# EAGLE library part 10029449-111RLF (library distributed-vision)
HDMI HDMI 1.4 Receptacle Connector 19 Position Surface Mount, Right Angle; Through Hole
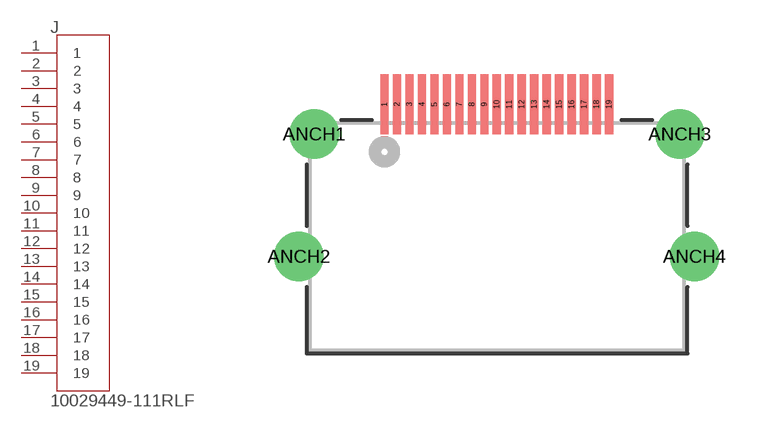
[diagram p1: symbol with the pads of CONN_1002944111_AMP; footprint CONN_1002944111_AMP]

Designator prefix J

## 10029449-111RLF (DKPN: 609-4614-1-ND)  [CONN_1002944111_AMP]
1  1  pas
2  2  pas
3  3  pas
4  4  pas
5  5  pas
6  6  pas
7  7  pas
8  8  pas
9  9  pas
10  10  pas
11  11  pas
12  12  pas
13  13  pas
14  14  pas
15  15  pas
16  16  pas
17  17  pas
18  18  pas
19  19  pas

## Footprint CONN_1002944111_AMP (pad centres in mm)
smd 0.33 x 2.388: 1 -5,6; 2 -4.5,6; 3 -4,6; 4 -3.5,6; 5 -3,6; 6 -2.5,6; 7 -2,6; 8 -1.5,6; 9 -1,6; 10 -0.5,6; 11 0,6; 12 0.5,6; 13 1,6; 14 1.5,6; 15 2,6; 16 2.5,6; 17 3,6; 18 3.5,6; 19 4,6
drill 1.321 pad 1.829: ANCH1 -7.819,4.806; ANCH2 -8.429,-0.096; ANCH3 6.836,4.806; ANCH4 7.421,-0.096